# Altium schematic symbol library SCH - POWER - LINEAR VREG - TI LP38512MR-ADJ.SchLib: 1 symbol
Pins are listed as number, name and electrical type; pins without a type are passive.

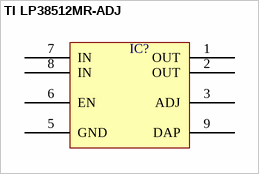
[diagram p0: symbol TI LP38512MR-ADJ]

## TI LP38512MR-ADJ
designator IC?  (value not drawn)
pins: 1 OUT, 2 OUT, 3 ADJ, 5 GND, 6 EN, 7 IN, 8 IN, 9 DAP